# Altium footprint library SOIC127P600X175-8N-12-V.PcbLib: 1 footprints
Each footprint in its own frame and in the unit in brackets; x right, y up, seen from the top. Pads: shape width x height; smd on the part's side, far side on the other; paste and mask are expansions set on the pad; w line width, h text height; cw(c..) or ccw(c..) is an arc to the next point about the centre after c.
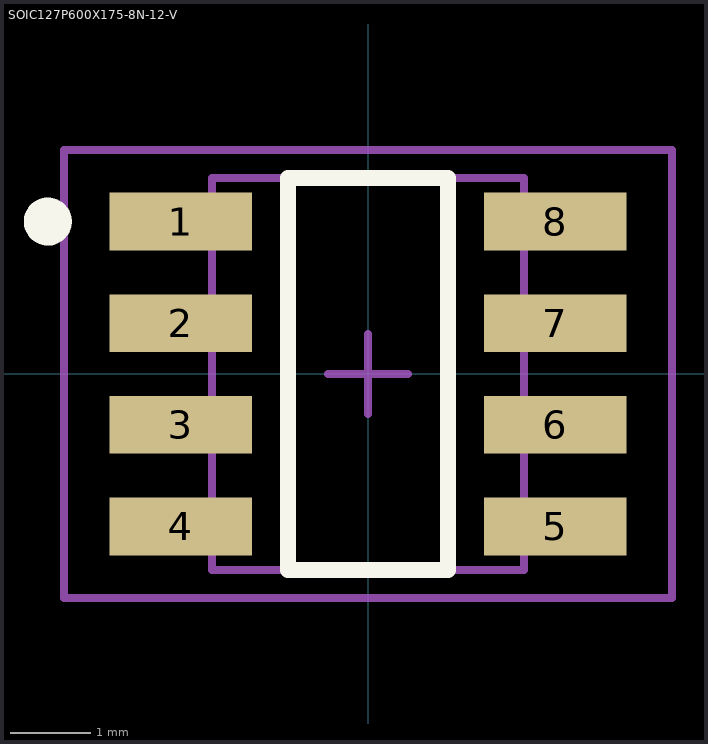
[diagram p0: the footprint, top view; thin cyan lines are the x and y axes]

## SOIC127P600X175-8N-12-V [mm] "SOIC,1.27mm pitch;8 pin,3.90mm W X 4.90mm L X 1.75mm H body"
height 1.75
pads (8):
  rect 1.78x0.72 smd paste+0 mask+0: 1(-2.34,1.905) 2(-2.34,0.635) 3(-2.34,-0.635) 4(-2.34,-1.905) 5(2.34,-1.905) 6(2.34,-0.635) 7(2.34,0.635) 8(2.34,1.905)
Top Overlay:
  circle w0.3: c-4,1.905 r0.15
  lines w0.2: -1,-2.45 1,-2.45 1,2.45 -1,2.45 -1,-2.45
M3 (ASY_Text_Top):
  text ".DESIGNATOR" at 0,0 h1.2
M13 (CMP_Body_OTL_Top):
  lines w0.1: -1.95,-2.45 -1.95,2.45 1.95,2.45 1.95,-2.45 -1.95,-2.45
M15 (CMP_Courtyard_Top):
  lines w0.1: -0.5,0 0.5,0 ; 0,-0.5 0,0.5 ; -3.8,-2.8 3.8,-2.8 3.8,2.8 -3.8,2.8 -3.8,-2.8
3D body "SO-8.stp": height 1.76, standoff 0, extent -3,-2.45 3,2.45